# EAGLE library part XC3S1200E (library _GpsAttitude)
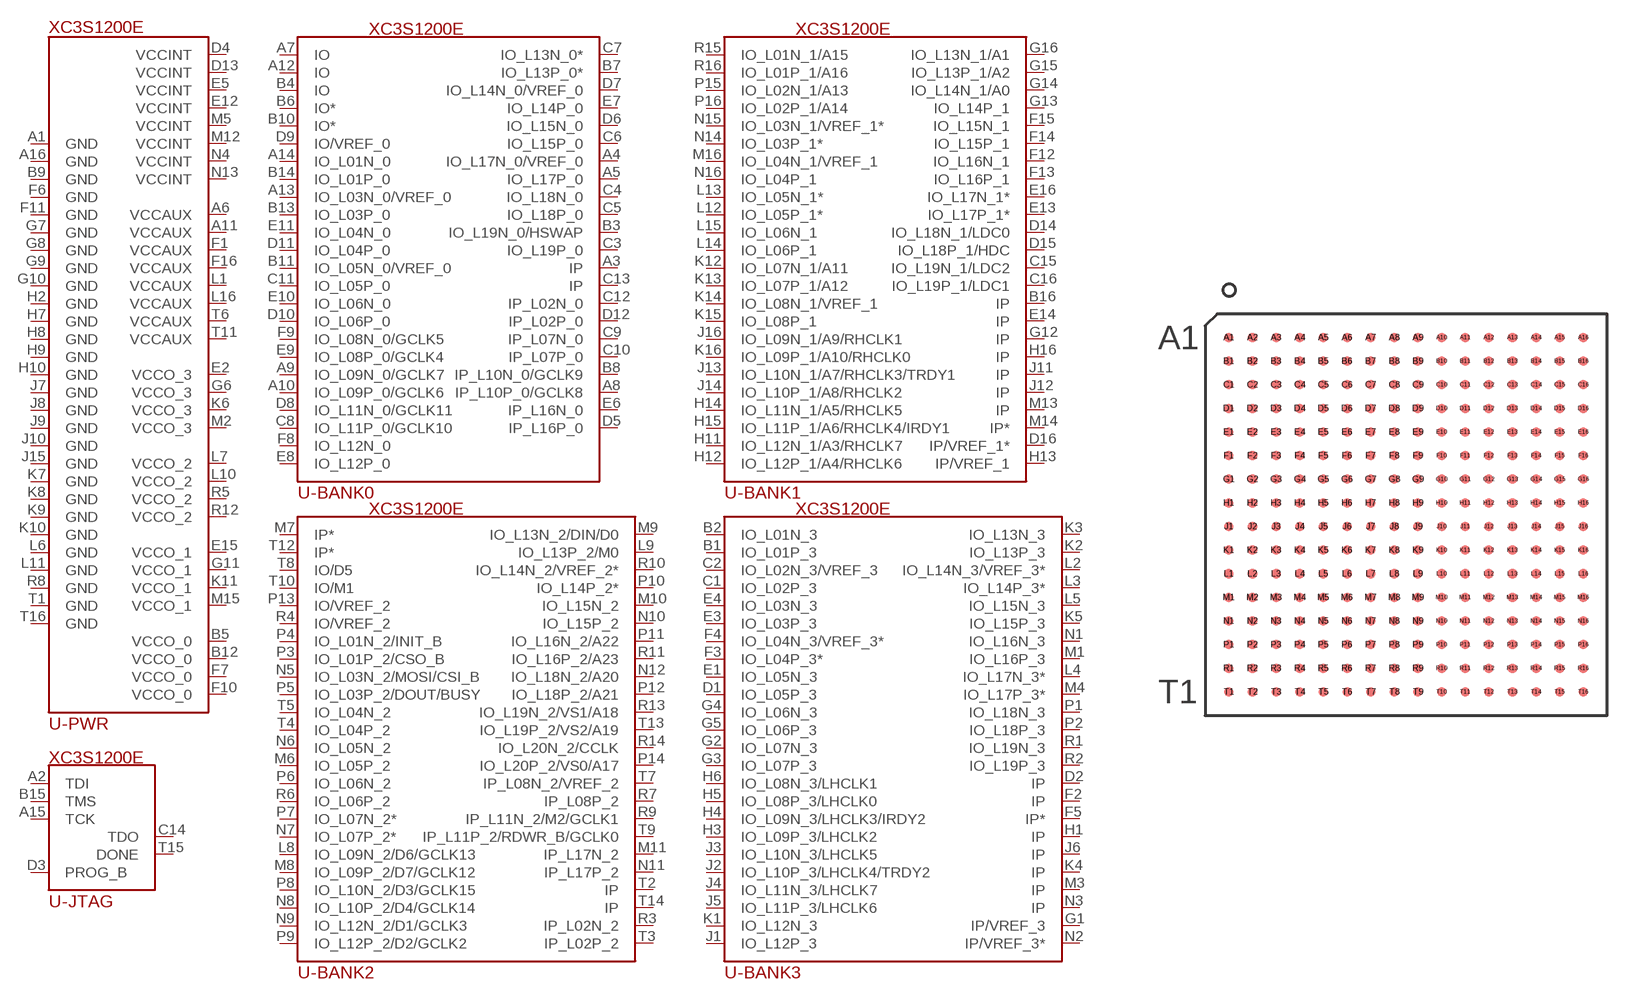
[diagram p1: symbol with the pads of FT256; footprint FT256]

Designator prefix U; gates -PWR=PWR -JTAG=JTAG-FPGA -BANK0=BANK0 -BANK1=BANK1 -BANK2=BANK2 -BANK3=BANK3

## XC3S1200E-FT256  [FT256]
A1  -PWR:GND  pwr
A2  -JTAG:TDI
A3  -BANK0:IP
A4  -BANK0:IO_L17N_0/VREF_0
A5  -BANK0:IO_L17P_0
A6  -PWR:VCCAUX  pwr
A7  -BANK0:IO
A8  -BANK0:IP_L10P_0/GCLK8
A9  -BANK0:IO_L09N_0/GCLK7
A10  -BANK0:IO_L09P_0/GCLK6
A11  -PWR:VCCAUX  pwr
A12  -BANK0:IO
A13  -BANK0:IO_L03N_0/VREF_0
A14  -BANK0:IO_L01N_0
A15  -JTAG:TCK
A16  -PWR:GND  pwr
B1  -BANK3:IO_L01P_3
B2  -BANK3:IO_L01N_3
B3  -BANK0:IO_L19N_0/HSWAP
B4  -BANK0:IO
B5  -PWR:VCCO_0  pwr
B6  -BANK0:IO*
B7  -BANK0:IO_L13P_0*
B8  -BANK0:IP_L10N_0/GCLK9
B9  -PWR:GND  pwr
B10  -BANK0:IO*
B11  -BANK0:IO_L05N_0/VREF_0
B12  -PWR:VCCO_0  pwr
B13  -BANK0:IO_L03P_0
B14  -BANK0:IO_L01P_0
B15  -JTAG:TMS
B16  -BANK1:IP
C1  -BANK3:IO_L02P_3
C2  -BANK3:IO_L02N_3/VREF_3
C3  -BANK0:IO_L19P_0
C4  -BANK0:IO_L18N_0
C5  -BANK0:IO_L18P_0
C6  -BANK0:IO_L15P_0
C7  -BANK0:IO_L13N_0*
C8  -BANK0:IO_L11P_0/GCLK10
C9  -BANK0:IP_L07N_0
C10  -BANK0:IP_L07P_0
C11  -BANK0:IO_L05P_0
C12  -BANK0:IP_L02N_0
C13  -BANK0:IP
C14  -JTAG:TDO
C15  -BANK1:IO_L19N_1/LDC2
C16  -BANK1:IO_L19P_1/LDC1
D1  -BANK3:IO_L05P_3
D2  -BANK3:IP
D3  -JTAG:PROG_B
D4  -PWR:VCCINT  pwr
D5  -BANK0:IP_L16P_0
D6  -BANK0:IO_L15N_0
D7  -BANK0:IO_L14N_0/VREF_0
D8  -BANK0:IO_L11N_0/GCLK11
D9  -BANK0:IO/VREF_0
D10  -BANK0:IO_L06P_0
D11  -BANK0:IO_L04P_0
D12  -BANK0:IP_L02P_0
D13  -PWR:VCCINT  pwr
D14  -BANK1:IO_L18N_1/LDC0
D15  -BANK1:IO_L18P_1/HDC
D16  -BANK1:IP/VREF_1*
E1  -BANK3:IO_L05N_3
E2  -PWR:VCCO_3  pwr
E3  -BANK3:IO_L03P_3
E4  -BANK3:IO_L03N_3
E5  -PWR:VCCINT  pwr
E6  -BANK0:IP_L16N_0
E7  -BANK0:IO_L14P_0
E8  -BANK0:IO_L12P_0
E9  -BANK0:IO_L08P_0/GCLK4
E10  -BANK0:IO_L06N_0
E11  -BANK0:IO_L04N_0
E12  -PWR:VCCINT  pwr
E13  -BANK1:IO_L17P_1*
E14  -BANK1:IP
E15  -PWR:VCCO_1  pwr
E16  -BANK1:IO_L17N_1*
F1  -PWR:VCCAUX  pwr
F2  -BANK3:IP
F3  -BANK3:IO_L04P_3*
F4  -BANK3:IO_L04N_3/VREF_3*
F5  -BANK3:IP*
F6  -PWR:GND  pwr
F7  -PWR:VCCO_0  pwr
F8  -BANK0:IO_L12N_0
F9  -BANK0:IO_L08N_0/GCLK5
F10  -PWR:VCCO_0  pwr
F11  -PWR:GND  pwr
F12  -BANK1:IO_L16N_1
F13  -BANK1:IO_L16P_1
F14  -BANK1:IO_L15P_1
F15  -BANK1:IO_L15N_1
F16  -PWR:VCCAUX  pwr
G1  -BANK3:IP/VREF_3
G2  -BANK3:IO_L07N_3
G3  -BANK3:IO_L07P_3
G4  -BANK3:IO_L06N_3
G5  -BANK3:IO_L06P_3
G6  -PWR:VCCO_3  pwr
G7  -PWR:GND  pwr
G8  -PWR:GND  pwr
G9  -PWR:GND  pwr
G10  -PWR:GND  pwr
G11  -PWR:VCCO_1  pwr
G12  -BANK1:IP
G13  -BANK1:IO_L14P_1
G14  -BANK1:IO_L14N_1/A0
G15  -BANK1:IO_L13P_1/A2
G16  -BANK1:IO_L13N_1/A1
H1  -BANK3:IP
H2  -PWR:GND  pwr
H3  -BANK3:IO_L09P_3/LHCLK2
H4  -BANK3:IO_L09N_3/LHCLK3/IRDY2
H5  -BANK3:IO_L08P_3/LHCLK0
H6  -BANK3:IO_L08N_3/LHCLK1
H7  -PWR:GND  pwr
H8  -PWR:GND  pwr
H9  -PWR:GND  pwr
H10  -PWR:GND  pwr
H11  -BANK1:IO_L12N_1/A3/RHCLK7
H12  -BANK1:IO_L12P_1/A4/RHCLK6
H13  -BANK1:IP/VREF_1
H14  -BANK1:IO_L11N_1/A5/RHCLK5
H15  -BANK1:IO_L11P_1/A6/RHCLK4/IRDY1
H16  -BANK1:IP
J1  -BANK3:IO_L12P_3
J2  -BANK3:IO_L10P_3/LHCLK4/TRDY2
J3  -BANK3:IO_L10N_3/LHCLK5
J4  -BANK3:IO_L11N_3/LHCLK7
J5  -BANK3:IO_L11P_3/LHCLK6
J6  -BANK3:IP
J7  -PWR:GND  pwr
J8  -PWR:GND  pwr
J9  -PWR:GND  pwr
J10  -PWR:GND  pwr
J11  -BANK1:IP
J12  -BANK1:IP
J13  -BANK1:IO_L10N_1/A7/RHCLK3/TRDY1
J14  -BANK1:IO_L10P_1/A8/RHCLK2
J15  -PWR:GND  pwr
J16  -BANK1:IO_L09N_1/A9/RHCLK1
K1  -BANK3:IO_L12N_3
K2  -BANK3:IO_L13P_3
K3  -BANK3:IO_L13N_3
K4  -BANK3:IP
K5  -BANK3:IO_L15P_3
K6  -PWR:VCCO_3  pwr
K7  -PWR:GND  pwr
K8  -PWR:GND  pwr
K9  -PWR:GND  pwr
K10  -PWR:GND  pwr
K11  -PWR:VCCO_1  pwr
K12  -BANK1:IO_L07N_1/A11
K13  -BANK1:IO_L07P_1/A12
K14  -BANK1:IO_L08N_1/VREF_1
K15  -BANK1:IO_L08P_1
K16  -BANK1:IO_L09P_1/A10/RHCLK0
L1  -PWR:VCCAUX  pwr
L2  -BANK3:IO_L14N_3/VREF_3*
L3  -BANK3:IO_L14P_3*
L4  -BANK3:IO_L17N_3*
L5  -BANK3:IO_L15N_3
L6  -PWR:GND  pwr
L7  -PWR:VCCO_2  pwr
L8  -BANK2:IO_L09N_2/D6/GCLK13
L9  -BANK2:IO_L13P_2/M0
L10  -PWR:VCCO_2  pwr
L11  -PWR:GND  pwr
L12  -BANK1:IO_L05P_1*
L13  -BANK1:IO_L05N_1*
L14  -BANK1:IO_L06P_1
L15  -BANK1:IO_L06N_1
L16  -PWR:VCCAUX  pwr
M1  -BANK3:IO_L16P_3
M2  -PWR:VCCO_3  pwr
M3  -BANK3:IP
M4  -BANK3:IO_L17P_3*
M5  -PWR:VCCINT  pwr
M6  -BANK2:IO_L05P_2
M7  -BANK2:IP*
M8  -BANK2:IO_L09P_2/D7/GCLK12
M9  -BANK2:IO_L13N_2/DIN/D0
M10  -BANK2:IO_L15N_2
M11  -BANK2:IP_L17N_2
M12  -PWR:VCCINT  pwr
M13  -BANK1:IP
M14  -BANK1:IP*
M15  -PWR:VCCO_1  pwr
M16  -BANK1:IO_L04N_1/VREF_1
N1  -BANK3:IO_L16N_3
N2  -BANK3:IP/VREF_3*
N3  -BANK3:IP
N4  -PWR:VCCINT  pwr
N5  -BANK2:IO_L03N_2/MOSI/CSI_B
N6  -BANK2:IO_L05N_2
N7  -BANK2:IO_L07P_2*
N8  -BANK2:IO_L10P_2/D4/GCLK14
N9  -BANK2:IO_L12N_2/D1/GCLK3
N10  -BANK2:IO_L15P_2
N11  -BANK2:IP_L17P_2
N12  -BANK2:IO_L18N_2/A20
N13  -PWR:VCCINT  pwr
N14  -BANK1:IO_L03P_1*
N15  -BANK1:IO_L03N_1/VREF_1*
N16  -BANK1:IO_L04P_1
P1  -BANK3:IO_L18N_3
P2  -BANK3:IO_L18P_3
P3  -BANK2:IO_L01P_2/CSO_B
P4  -BANK2:IO_L01N_2/INIT_B
P5  -BANK2:IO_L03P_2/DOUT/BUSY
P6  -BANK2:IO_L06N_2
P7  -BANK2:IO_L07N_2*
P8  -BANK2:IO_L10N_2/D3/GCLK15
P9  -BANK2:IO_L12P_2/D2/GCLK2
P10  -BANK2:IO_L14P_2*
P11  -BANK2:IO_L16N_2/A22
P12  -BANK2:IO_L18P_2/A21
P13  -BANK2:IO/VREF_2
P14  -BANK2:IO_L20P_2/VS0/A17
P15  -BANK1:IO_L02N_1/A13
P16  -BANK1:IO_L02P_1/A14
R1  -BANK3:IO_L19N_3
R2  -BANK3:IO_L19P_3
R3  -BANK2:IP_L02N_2
R4  -BANK2:IO/VREF_2
R5  -PWR:VCCO_2  pwr
R6  -BANK2:IO_L06P_2
R7  -BANK2:IP_L08P_2
R8  -PWR:GND  pwr
R9  -BANK2:IP_L11N_2/M2/GCLK1
R10  -BANK2:IO_L14N_2/VREF_2*
R11  -BANK2:IO_L16P_2/A23
R12  -PWR:VCCO_2  pwr
R13  -BANK2:IO_L19N_2/VS1/A18
R14  -BANK2:IO_L20N_2/CCLK
R15  -BANK1:IO_L01N_1/A15
R16  -BANK1:IO_L01P_1/A16
T1  -PWR:GND  pwr
T2  -BANK2:IP
T3  -BANK2:IP_L02P_2
T4  -BANK2:IO_L04P_2
T5  -BANK2:IO_L04N_2
T6  -PWR:VCCAUX  pwr
T7  -BANK2:IP_L08N_2/VREF_2
T8  -BANK2:IO/D5
T9  -BANK2:IP_L11P_2/RDWR_B/GCLK0
T10  -BANK2:IO/M1
T11  -PWR:VCCAUX  pwr
T12  -BANK2:IP*
T13  -BANK2:IO_L19P_2/VS2/A19
T14  -BANK2:IP
T15  -JTAG:DONE
T16  -PWR:GND  pwr

## Footprint FT256 (pad centres in mm)
smd 0.4 x 0.4: A1 1,16; A2 2,16; A3 3,16; A4 4,16; A5 5,16; A6 6,16; A7 7,16; A8 8,16; A9 9,16; A10 10,16; A11 11,16; A12 12,16; A13 13,16; A14 14,16; A15 15,16; A16 16,16; B1 1,15; B2 2,15; B3 3,15; B4 4,15; B5 5,15; B6 6,15; B7 7,15; B8 8,15; B9 9,15; B10 10,15; B11 11,15; B12 12,15; B13 13,15; B14 14,15; B15 15,15; B16 16,15; C1 1,14; C2 2,14; C3 3,14; C4 4,14; C5 5,14; C6 6,14; C7 7,14; C8 8,14; C9 9,14; C10 10,14; C11 11,14; C12 12,14; C13 13,14; C14 14,14; C15 15,14; C16 16,14; D1 1,13; D2 2,13; D3 3,13; D4 4,13; D5 5,13; D6 6,13; D7 7,13; D8 8,13; D9 9,13; D10 10,13; D11 11,13; D12 12,13; D13 13,13; D14 14,13; D15 15,13; D16 16,13; E1 1,12; E2 2,12; E3 3,12; E4 4,12; E5 5,12; E6 6,12; E7 7,12; E8 8,12; E9 9,12; E10 10,12; E11 11,12; E12 12,12; E13 13,12; E14 14,12; E15 15,12; E16 16,12; F1 1,11; F2 2,11; F3 3,11; F4 4,11; F5 5,11; F6 6,11; F7 7,11; F8 8,11; F9 9,11; F10 10,11; F11 11,11; F12 12,11; F13 13,11; F14 14,11; F15 15,11; F16 16,11; G1 1,10; G2 2,10; G3 3,10; G4 4,10; G5 5,10; G6 6,10; G7 7,10; G8 8,10; G9 9,10; G10 10,10; G11 11,10; G12 12,10; G13 13,10; G14 14,10; G15 15,10; G16 16,10; H1 1,9; H2 2,9; H3 3,9; H4 4,9; H5 5,9; H6 6,9; H7 7,9; H8 8,9; H9 9,9; H10 10,9; H11 11,9; H12 12,9; H13 13,9; H14 14,9; H15 15,9; H16 16,9; J1 1,8; J2 2,8; J3 3,8; J4 4,8; J5 5,8; J6 6,8; J7 7,8; J8 8,8; J9 9,8; J10 10,8; J11 11,8; J12 12,8; J13 13,8; J14 14,8; J15 15,8; J16 16,8; K1 1,7; K2 2,7; K3 3,7; K4 4,7; K5 5,7; K6 6,7; K7 7,7; K8 8,7; K9 9,7; K10 10,7; K11 11,7; K12 12,7; K13 13,7; K14 14,7; K15 15,7; K16 16,7; L1 1,6; L2 2,6; L3 3,6; L4 4,6; L5 5,6; L6 6,6; L7 7,6; L8 8,6; L9 9,6; L10 10,6; L11 11,6; L12 12,6; L13 13,6; L14 14,6; L15 15,6; L16 16,6; M1 1,5; M2 2,5; M3 3,5; M4 4,5; M5 5,5; M6 6,5; M7 7,5; M8 8,5; M9 9,5; M10 10,5; M11 11,5; M12 12,5; M13 13,5; M14 14,5; M15 15,5; M16 16,5; N1 1,4; N2 2,4; N3 3,4; N4 4,4; N5 5,4; N6 6,4; N7 7,4; N8 8,4; N9 9,4; N10 10,4; N11 11,4; N12 12,4; N13 13,4; N14 14,4; N15 15,4; N16 16,4; P1 1,3; P2 2,3; P3 3,3; P4 4,3; P5 5,3; P6 6,3; P7 7,3; P8 8,3; P9 9,3; P10 10,3; P11 11,3; P12 12,3; P13 13,3; P14 14,3; P15 15,3; P16 16,3; R1 1,2; R2 2,2; R3 3,2; R4 4,2; R5 5,2; R6 6,2; R7 7,2; R8 8,2; R9 9,2; R10 10,2; R11 11,2; R12 12,2; R13 13,2; R14 14,2; R15 15,2; R16 16,2; T1 1,1; T2 2,1; T3 3,1; T4 4,1; T5 5,1; T6 6,1; T7 7,1; T8 8,1; T9 9,1; T10 10,1; T11 11,1; T12 12,1; T13 13,1; T14 14,1; T15 15,1; T16 16,1